# Altium schematic symbol library Mini_System.SchLib: 6 symbols
Pins are listed as number, name and electrical type; pins without a type are passive.

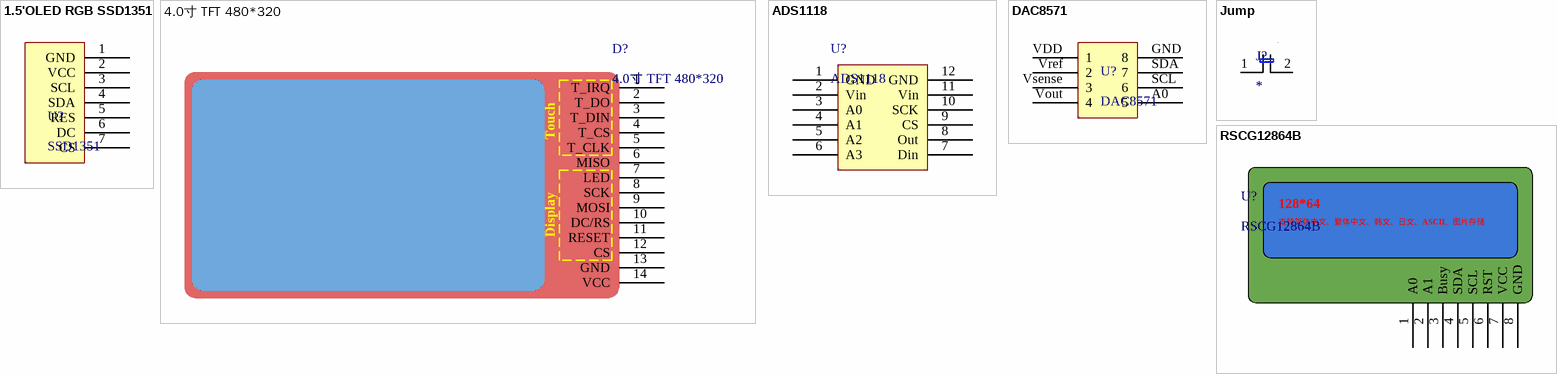
[diagram p0: symbols 1.5'OLED RGB SSD1351 to RSCG12864B]

## 1.5'OLED RGB SSD1351
designator U?, comment SSD1351
1.5寸彩色OLED
footprint HDR-1X7 (排针，8脚)
pins: 1 GND, 2 VCC, 3 SCL, 4 SDA, 5 RES, 6 DC, 7 CS

## 4.0寸 TFT 480*320
designator D?
footprint 4.0 TFT
pins: 1 T_IRQ, 2 T_DO, 3 T_DIN, 4 T_CS, 5 T_CLK, 6 MISO, 7 LED, 8 SCK, 9 MOSI, 10 DC/RS, 11 RESET, 12 CS, 13 GND, 14 VCC
text: Touch; Display

## ADS1118
designator U?
16位ADC芯片，将模拟电压信号转化为数字信号供单片机处理
footprint dip12
pins: 1 GND, 2 Vin, 3 A0, 4 A1, 5 A2, 6 A3, 7 Din, 8 Out, 9 CS, 10 SCK, 11 Vin, 12 GND

## DAC8571
designator U?
16位DAC芯片，将数字量转化为模拟电压输出
footprint DIP8-300_MH (带底座 9.4*7.6*3.8(长宽高）); pin to pad A0>5 GND>8 SCL>6 SDA>7 VDD>1 Vout>4 Vref>2 Vsense>3
pins: A0 5, GND 8, SCL 6, SDA 7, VDD 1, Vout 4, Vref 2, Vsense 3

## Jump
designator J?
footprint HDR-1x2 (排针，2脚)
pins: 1, 2

## RSCG12864B
designator U?
footprint HDR-1X8_M (排母，8脚)
pins: 1 A0, 2 A1, 3 Busy, 4 SDA, 5 SCL, 6 RST, 7 VCC, 8 GND
text: 128*64; 支持简体中文、繁体中文、韩文、日文、ASCII、图片存储